# Altium schematic symbol library BFR93A.Schlib: 1 symbol
Pins are listed as number, name and electrical type; pins without a type are passive.

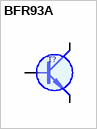
[diagram p0: symbol BFR93A]

## BFR93A
designator T?
SOT23     12V 90mA 6GHz NF 1.9db
pins: 1 B, 2 E (oe), 3 C (oc)
1 alternate drawing of the same symbol